# Altium schematic symbol library R-CRCW120656R0JNEA.Schlib: 1 symbol
Pins are listed as number, name and electrical type; pins without a type are passive.

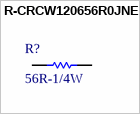
[diagram p0: symbol R-CRCW120656R0JNEA]

## R-CRCW120656R0JNEA
designator R?, comment 56R-1/4W
Thick Film Resistors - SMD 1/4watt 56ohms 5%
pins: 1, 2